# Altium integrated library A4988_STEPPER_MOTOR_DRIVER_CARRIER_BLACK.IntLib: 1 symbol
Pins are listed as number, name and electrical type; pins without a type are passive.

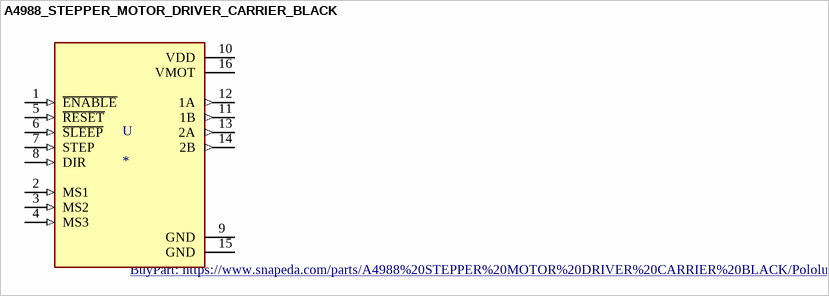
[diagram p0: symbol A4988_STEPPER_MOTOR_DRIVER_CARRIER_BLACK]

## A4988_STEPPER_MOTOR_DRIVER_CARRIER_BLACK
designator U
Stepper motor controler; IC: A4988; 1.2A; Uin mot: 8Ã·35V; MF: Pololu; MP: A4988 STEPPER MOTOR DRIVER CARRIER BLACK; SnapEDA_Link: https://www.snapeda.com/parts/A4988%20STEPPER%20MOTOR%20DRIVER%20CARRIER%20BLACK/Pololu/view-part/1450050/?ref=snap; Value: *; Availability: Unavailable; Price: None; Package: None; BuyPart: https://www.snapeda.com/parts/A4988%20STEPPER%20MOTOR%20DRIVER%20CARRIER%20BLACK/Pololu/view-part/1450050/?ref=eda
footprint MODULE_A4988_STEPPER_MOTOR_DRIVER_CARRIER_BLACK
pins: 1 ~{ENABLE} (in), 2 MS1 (in), 3 MS2 (in), 4 MS3 (in), 5 ~{RESET} (in), 6 ~{SLEEP} (in), 7 STEP (in), 8 DIR (in), 9 GND (power), 10 VDD (power), 11 1B (out), 12 1A (out), 13 2A (out), 14 2B (out), 15 GND (power), 16 VMOT (power)